# Altium footprint library Relay.PcbLib: 1 footprints
Each footprint in its own frame and in the unit in brackets; x right, y up, seen from the top. Pads: shape width x height; smd on the part's side, far side on the other; paste and mask are expansions set on the pad; w line width, h text height; cw(c..) or ccw(c..) is an arc to the next point about the centre after c.
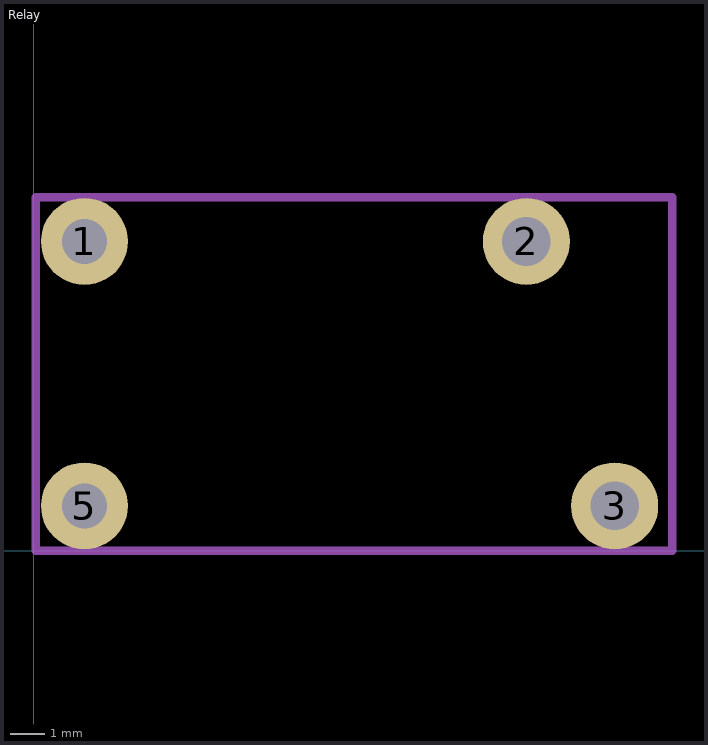
[diagram p0: the footprint, top view; thin cyan lines are the x and y axes]

## Relay [mm]
pads (4):
  round 2.5 hole 1.3: 1(1.456,8.883) 5(1.456,1.283)
  round 2.5 hole 1.4: 2(14.156,8.883) 3(16.696,1.283)
Bottom Overlay:
  lines w0.254: 0.059,-0.007 0.059,10.153 18.347,10.153 18.347,-0.007 0.059,-0.007
Mechanical 8:
  lines w0.254: 0.059,-0.007 18.347,-0.007 18.347,10.153 0.059,10.153 0.059,-0.007
Mechanical 13:
  lines w0.254: 0.059,-0.007 0.059,10.153 18.347,10.153 18.347,-0.007 0.059,-0.007
3D body: height 15.3, standoff 0, extent -0.068,-0.007 18.22,10.153